# Altium schematic symbol library AZV3002S-13.SchLib: 1 symbol
Pins are listed as number, name and electrical type; pins without a type are passive.

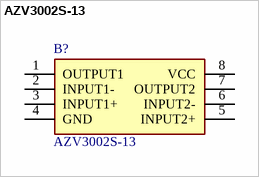
[diagram p0: symbol AZV3002S-13]

## AZV3002S-13
designator B?
Analog Comparators Dual Ch Comparator 6uA 1pA 1.6 to 5.5V; Manufacturer_Name: Diodes Incorporated; Geometry.Height: 1.75mm; Manufacturer_Part_Number: AZV3002S-13; Mouser Part Number: 621-AZV3002S-13; Mouser Price/Stock: https://www.mouser.co.uk/ProductDetail/Diodes-Incorporated/AZV3002S-13?qs=ma0NyvTRVt0EcfML8tbxlQ%3D%3D; Arrow Part Number: AZV3002S-13; Arrow Price/Stock: https://www.arrow.com/en/products/azv3002s-13/diodes-incorporated?utm_currency=USD&region=nac; Datasheet Link: https://www.diodes.com//assets/Datasheets/AZV3001.pdf
footprint SOIC127P600X175-8N
pins: 1 OUTPUT1, 2 INPUT1-, 3 INPUT1+, 4 GND, 5 INPUT2+, 6 INPUT2-, 7 OUTPUT2, 8 VCC